# EAGLE library part MAX98306 (library pimoroni-ics)
Stereo 3.7W Class D Amplifier Datasheet: http://datasheets.maxim-ic.com/en/ds/MAX98306.pdf The MAX98306 stereo 3.7W Class D amplifier provides Class AB audio performance with Class D efficiency. This device offers five selectable gain settings (6dB, 9dB, 12dB, 15dB, and 18dB) set by a single gain-select input (GAIN). Active emissions limiting, edge-rate, and overshoot control circuitry combined with a filterless spread-spectrum modulation scheme (SSM) provide excellent EMI performance while eliminating the need for output filtering found in traditional Class D devices. These features reduce application component count. The IC's 2.0mA quiescent current with a 3.7V supply extends battery life in portable applications. The IC is available in a 14-pin TDFN (3mm x 3mm x 0.75mm) package specified over the extended -40NC to +85NC temperature range.
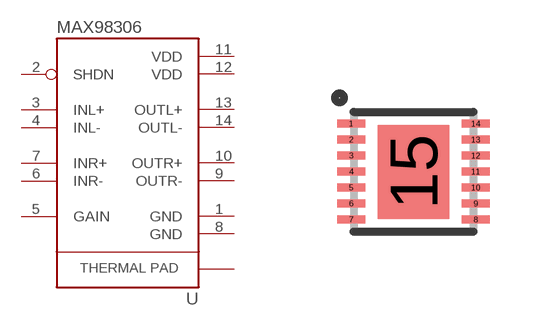
[diagram p30: symbol with the pads of TDFN-14; footprint TDFN-14]

Designator prefix U

## MAX98306ETD+  [TDFN-14]
1  GND  pwr
2  SHDN  in
3  INL+
4  INL-
5  GAIN  pas
6  INR-
7  INR+
8  GND  pwr
9  OUTR-
10  OUTR+
11  VDD  pwr
12  VDD  pwr
13  OUTL+
14  OUTL-
15  GND  pwr

## Footprint TDFN-14 (pad centres in mm)
smd 0.7 x 0.2: 1 -1.559,1.208; 2 -1.559,0.808; 3 -1.559,0.408; 4 -1.559,0.008; 5 -1.559,-0.392; 6 -1.559,-0.792; 7 -1.559,-1.192; 8 1.552,-1.195; 9 1.552,-0.795; 10 1.552,-0.395; 11 1.552,0.005; 12 1.552,0.405; 13 1.552,0.805; 14 1.552,1.205
smd 1.78 x 2.35: 15 0,0